# Altium footprint library Jump.PcbLib: 81 footprints (part 1 of 6)
Each footprint in its own frame and in the unit in brackets; x right, y up, seen from the top. Pads: shape width x height; smd on the part's side, far side on the other; paste and mask are expansions set on the pad; w line width, h text height; cw(c..) or ccw(c..) is an arc to the next point about the centre after c.
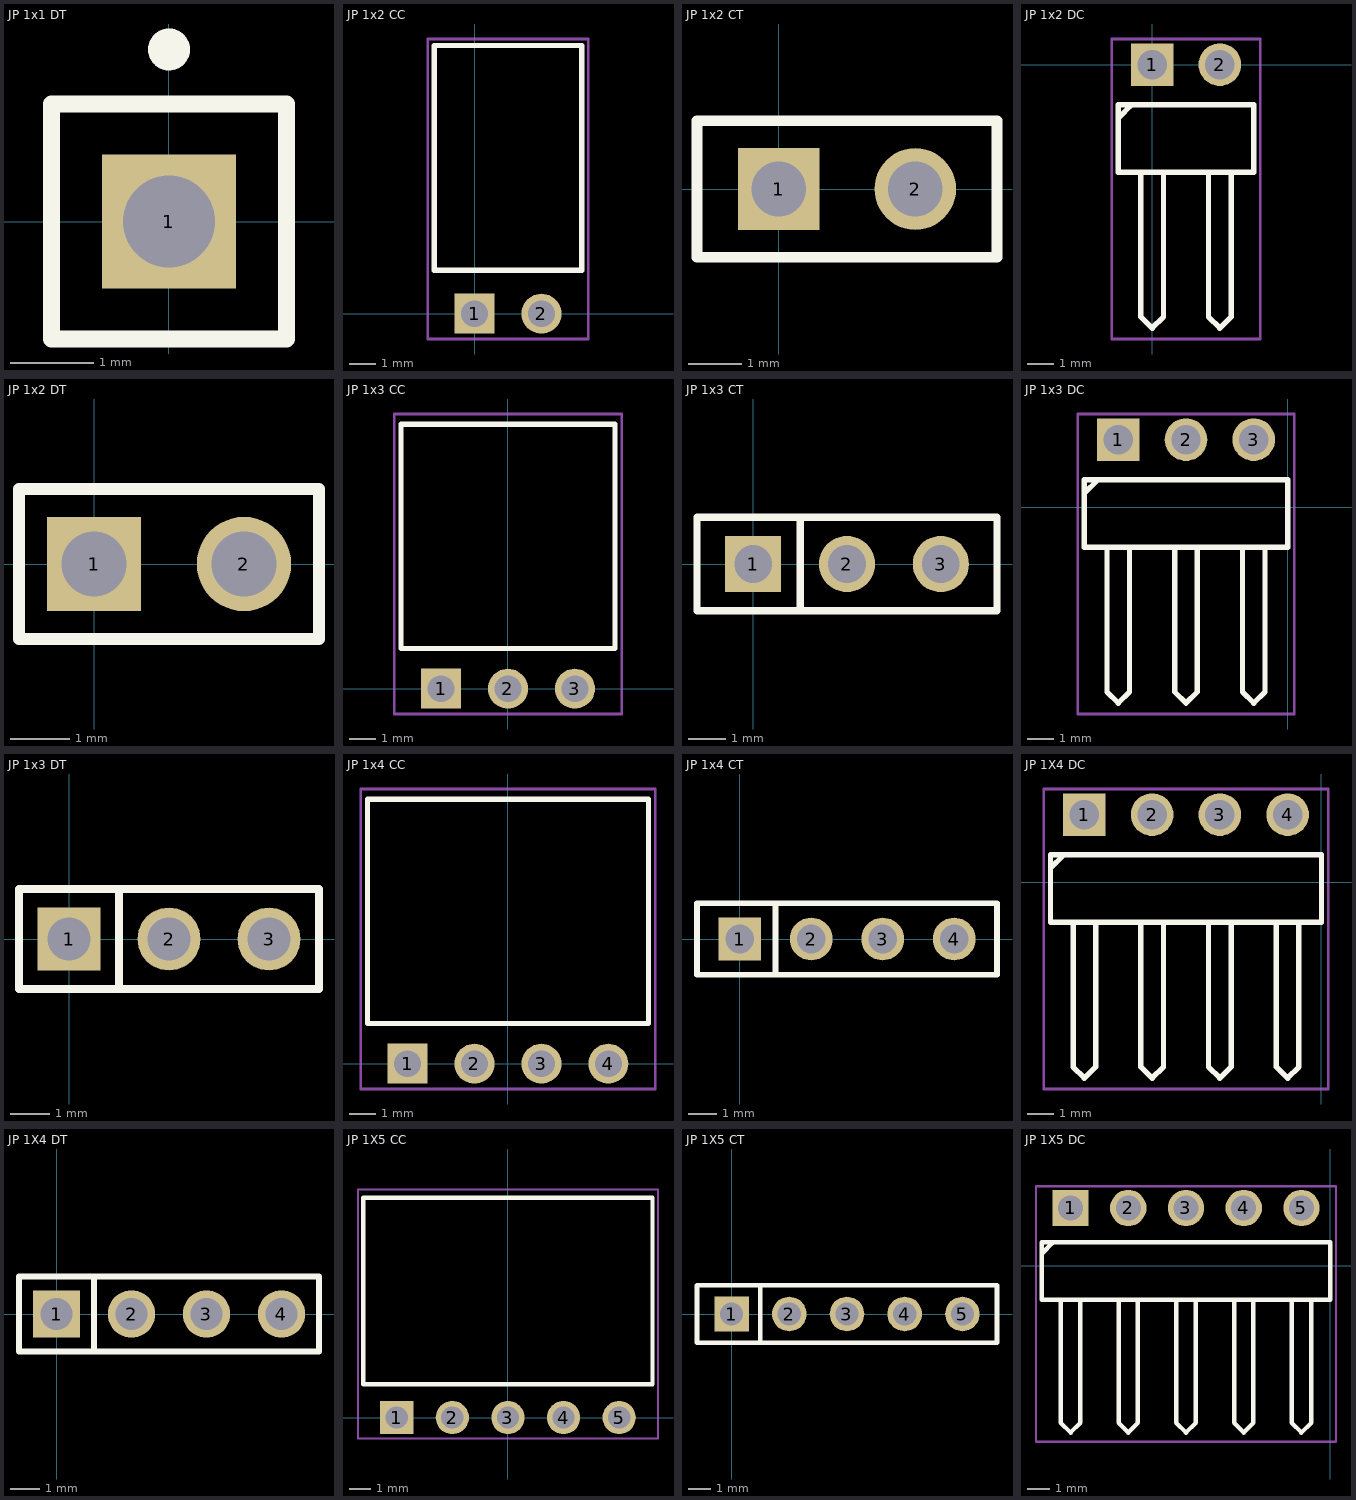
[diagram p0: the footprints below, top view; thin cyan lines are the x and y axes]

## JP 1x1 DT [mm] "1pins, 1 row, straight, gold plating"
height 8.54
pads (1):
  rect 1.6x1.6 hole 1.1: 1(0,0)
Top Overlay:
  circle w0.25: c0,2.05 r0.125
  lines w0.2: -1.4,-1.4 -1.4,1.4 1.4,1.4 1.4,-1.4 -1.4,-1.4
3D body "61300111121.stp": height 8.54, standoff -3, extent -1.27,-1.27 1.27,1.27

## JP 1x2 CC [mm] "JP 1x2 CC"
height 2.5
pads (2):
  rect 1.52x1.52 hole 1.02: 1(0,0)
  round 1.52 hole 1.02: 2(2.54,0)
Top Overlay:
  lines w0.2: -1.524,1.651 4.064,1.651 4.064,10.173 -1.524,10.173 -1.524,1.651
Mechanical 15:
  lines w0.1: -1.774,-0.96 4.314,-0.96 4.314,10.423 -1.774,10.423 -1.774,-0.96
3D body "613002143121.stp": height 2.51, standoff -3.08, extent -1.52,-0.127 4.06,10.173

## JP 1x2 CT [mm] "JP 1x2 CT"
height 8.5
pads (2):
  rect 1.52x1.52 hole 1.02: 1(0,0)
  round 1.52 hole 1.02: 2(2.54,0)
Top Overlay:
  lines w0.2: -1.52,-1.27 -1.52,1.27 4.06,1.27 4.06,-1.27 -1.52,-1.27
3D body "61300211821.stp": height 8.51, standoff -3.09, extent -1.52,-1.25 4.06,1.25

## JP 1x2 DC [mm] "JP 1x2 DC"
height 2.54
pads (2):
  rect 1.6x1.6 hole 1.1: 1(0,0)
  round 1.6 hole 1.1: 2(2.54,0)
Top Overlay:
  lines w0.2: -1.228,-1.966 -0.804,-1.542 ; -0.423,-4.065 -0.423,-9.459 0,-9.882 0.423,-9.459 0.423,-4.04 ; 2.117,-4.065 2.117,-9.459 2.54,-9.882 2.963,-9.459 2.963,-4.065 ; -1.27,-4.04 3.81,-4.04 3.81,-1.5 -1.27,-1.5 -1.27,-4.04
Mechanical 15:
  lines w0.1: -1.52,-10.29 4.06,-10.29 4.06,0.96 -1.52,0.96 -1.52,-10.29
3D body "61300211021.stp": height 2.55, standoff -2.99, extent -1.27,-10.064 3.81,0.296

## JP 1x2 DT [mm] "2 pins, 1 row, straight, gold plating"
height 8.54
pads (2):
  rect 1.6x1.6 hole 1.1: 1(0,0)
  round 1.6 hole 1.1: 2(2.54,0)
Top Overlay:
  lines w0.2: -1.27,-1.27 3.81,-1.27 3.81,1.27 -1.27,1.27 -1.27,-1.27
3D body "61300211121.stp": height 8.54, standoff -3, extent -1.27,-1.27 3.81,1.27

## JP 1x3 CC [mm] "JP 1x3 CC"
height 2.5
pads (3):
  rect 1.52x1.52 hole 1.02: 1(-2.54,0)
  round 1.52 hole 1.02: 2(0,0) 3(2.54,0)
Top Overlay:
  lines w0.2: -4.06,1.524 -4.06,10.033 4.064,10.033 4.064,1.524 -4.06,1.524
Mechanical 15:
  lines w0.1: -4.31,-0.96 -4.31,10.423 4.314,10.423 4.314,-0.96 -4.31,-0.96
3D body "613003143121.stp": height 2.51, standoff -3.08, extent -4.06,-0.254 4.06,10.046

## JP 1x3 CT [mm]
height 8.5
pads (3):
  rect 1.52x1.52 hole 1.02: 1(0,0)
  round 1.52 hole 1.02: 2(2.54,0) 3(5.08,0)
Top Overlay:
  lines w0.2: 1.27,-1.27 1.27,1.27 ; -1.52,-1.27 -1.52,1.27 6.6,1.27 6.6,-1.27 -1.52,-1.27
3D body "61300311821.stp": height 8.51, standoff -3.09, extent -1.52,-1.25 6.6,1.25

## JP 1x3 DC [mm]
height 2.54
pads (3):
  rect 1.6x1.6 hole 1.1: 1(-6.35,2.54)
  round 1.6 hole 1.1: 2(-3.81,2.54) 3(-1.27,2.54)
Top Overlay:
  lines w0.2: -7.578,0.574 -7.154,0.998 ; -6.773,-1.525 -6.773,-6.919 -6.35,-7.342 -5.927,-6.919 -5.927,-1.5 ; -4.233,-1.525 -4.233,-6.919 -3.81,-7.342 -3.387,-6.919 -3.387,-1.525 ; -1.693,-1.525 -1.693,-6.919 -1.27,-7.342 -0.847,-6.919 -0.847,-1.5 ; -7.62,-1.5 -7.62,1.04 0,1.04 0,-1.5 -7.62,-1.5
Mechanical 15:
  lines w0.1: -7.87,-7.75 0.25,-7.75 0.25,3.5 -7.87,3.5 -7.87,-7.75
3D body "61300311021.stp": height 2.55, standoff -2.99, extent -7.62,-7.524 0,2.836

## JP 1x3 DT [mm]
height 8.54
pads (3):
  rect 1.6x1.6 hole 1.1: 1(0,0)
  round 1.6 hole 1.1: 2(2.54,0) 3(5.08,0)
Top Overlay:
  lines w0.2: 1.27,-1.27 1.27,1.27 ; -1.27,-1.27 6.35,-1.27 6.35,1.27 -1.27,1.27 -1.27,-1.27
3D body "61300311121.stp": height 8.54, standoff -3, extent -1.27,-1.27 6.35,1.27

## JP 1x4 CC [mm]
height 2.5
pads (4):
  rect 1.52x1.52 hole 1.02: 1(-3.81,0)
  round 1.52 hole 1.02: 2(-1.27,0) 3(1.27,0) 4(3.81,0)
Top Overlay:
  lines w0.2: -5.33,1.524 5.334,1.524 5.334,10.033 -5.33,10.033 -5.33,1.524
Mechanical 15:
  lines w0.1: -5.58,-0.96 5.584,-0.96 5.584,10.423 -5.58,10.423 -5.58,-0.96
3D body "613004143121.stp": height 2.51, standoff -3.08, extent -5.33,-0.254 5.33,10.046

## JP 1x4 CT [mm]
height 8.5
pads (4):
  rect 1.52x1.52 hole 1.02: 1(0,0)
  round 1.52 hole 1.02: 2(2.54,0) 3(5.08,0) 4(7.62,0)
Top Overlay:
  lines w0.2: 1.27,-1.27 1.27,1.27 ; -1.52,-1.27 -1.52,1.27 9.14,1.27 9.14,-1.27 -1.52,-1.27
3D body "61300411821.stp": height 8.51, standoff -3.09, extent -1.52,-1.25 9.14,1.25

## JP 1X4 DC [mm] "4 pins, 1 row, right angled, gold plating"
height 2.54
pads (4):
  rect 1.6x1.6 hole 1.1: 1(-8.89,2.54)
  round 1.6 hole 1.1: 2(-6.35,2.54) 3(-3.81,2.54) 4(-1.27,2.54)
Top Overlay:
  lines w0.2: -10.118,0.574 -9.694,0.998 ; -9.313,-1.525 -9.313,-6.919 -8.89,-7.342 -8.467,-6.919 -8.467,-1.5 ; -6.773,-1.525 -6.773,-6.919 -6.35,-7.342 -5.927,-6.919 -5.927,-1.525 ; -4.233,-1.525 -4.233,-6.919 -3.81,-7.342 -3.387,-6.919 -3.387,-1.5 ; -1.693,-1.525 -1.693,-6.919 -1.27,-7.342 -0.847,-6.919 -0.847,-1.525 ; -10.16,-1.5 -10.16,1.04 0,1.04 0,-1.5 -10.16,-1.5
Mechanical 15:
  lines w0.1: -10.41,-7.75 0.25,-7.75 0.25,3.5 -10.41,3.5 -10.41,-7.75
3D body "61300411021.stp": height 2.54, standoff -3, extent -10.16,-7.566 0,2.794

## JP 1X4 DT [mm] "4 pins, 1 row, straight, gold plating"
height 8.54
pads (4):
  rect 1.6x1.6 hole 1.1: 1(0,0)
  round 1.6 hole 1.1: 2(2.54,0) 3(5.08,0) 4(7.62,0)
Top Overlay:
  lines w0.2: 1.27,-1.27 1.27,1.27 ; -1.27,-1.27 8.89,-1.27 8.89,1.27 -1.27,1.27 -1.27,-1.27
3D body "61300411121.stp": height 8.54, standoff -3, extent -1.27,-1.27 8.89,1.27

## JP 1X5 CC [mm]
height 2.5
pads (5):
  rect 1.52x1.52 hole 1.02: 1(-5.08,0)
  round 1.52 hole 1.02: 2(-2.54,0) 3(0,0) 4(2.54,0) 5(5.08,0)
Top Overlay:
  lines w0.2: -6.604,1.524 -6.604,10.046 6.604,10.046 6.604,1.524 -6.604,1.524
Mechanical 15:
  lines w0.1: -6.85,-0.96 -6.85,10.423 6.854,10.423 6.854,-0.96 -6.85,-0.96
3D body "613005143121.stp": height 2.51, standoff -3.08, extent -6.6,-0.254 6.6,10.046

## JP 1X5 CT [mm]
height 8.5
pads (5):
  rect 1.52x1.52 hole 1.02: 1(0,0)
  round 1.52 hole 1.02: 2(2.54,0) 3(5.08,0) 4(7.62,0) 5(10.16,0)
Top Overlay:
  lines w0.2: 1.27,-1.27 1.27,1.27 ; -1.52,-1.27 -1.52,1.27 11.68,1.27 11.68,-1.27 -1.52,-1.27
3D body "61300511821.stp": height 8.51, standoff -3.09, extent -1.52,-1.25 11.68,1.25

## JP 1X5 DC [mm] "5 pins, 1 row, right angled, gold plating"
height 2.54
pads (5):
  rect 1.6x1.6 hole 1.1: 1(-11.43,2.54)
  round 1.6 hole 1.1: 2(-8.89,2.54) 3(-6.35,2.54) 4(-3.81,2.54) 5(-1.27,2.54)
Top Overlay:
  lines w0.2: -12.658,0.574 -12.234,0.998 ; -11.853,-1.525 -11.853,-6.919 -11.43,-7.342 -11.007,-6.919 -11.007,-1.5 ; -9.313,-1.525 -9.313,-6.919 -8.89,-7.342 -8.467,-6.919 -8.467,-1.525 ; -6.773,-1.525 -6.773,-6.919 -6.35,-7.342 -5.927,-6.919 -5.927,-1.5 ; -4.233,-1.525 -4.233,-6.919 -3.81,-7.342 -3.387,-6.919 -3.387,-1.525 ; -1.693,-1.525 -1.693,-6.919 -1.27,-7.342 -0.847,-6.919 -0.847,-1.5 ; -12.7,-1.5 0,-1.5 0,1.04 -12.7,1.04 -12.7,-1.5
Mechanical 15:
  lines w0.1: -12.95,-7.75 -12.95,3.5 0.25,3.5 0.25,-7.75 -12.95,-7.75
3D body "61300511021.stp": height 2.55, standoff -2.99, extent -12.7,-7.524 0,2.836